# Altium footprint library p600_vertical.PcbLib: 1 footprints
Each footprint in its own frame and in the unit in brackets; x right, y up, seen from the top. Pads: shape width x height; smd on the part's side, far side on the other; paste and mask are expansions set on the pad; w line width, h text height; cw(c..) or ccw(c..) is an arc to the next point about the centre after c.
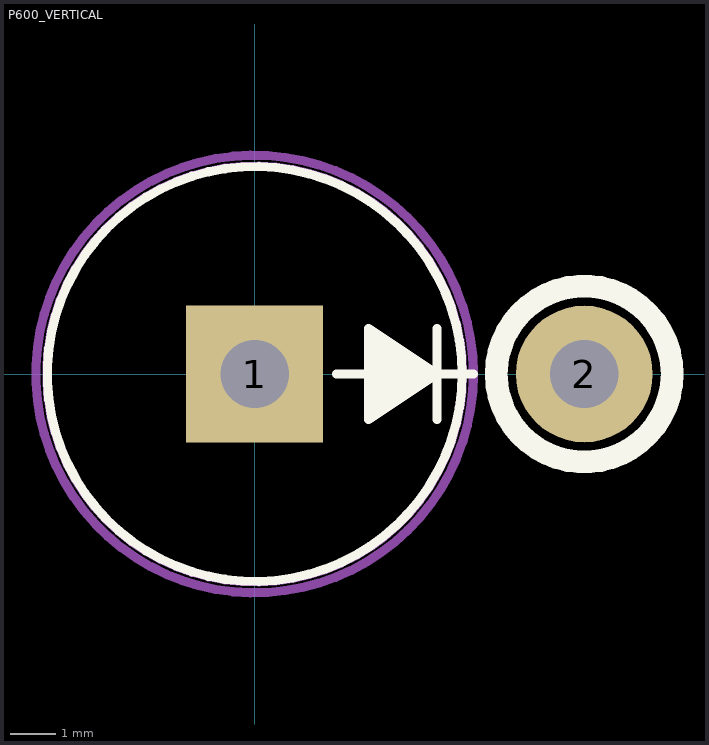
[diagram p0: the footprint, top view; thin cyan lines are the x and y axes]

## P600_VERTICAL [mm]
height 9.1
pads (2):
  rect 3x3 hole 1.5: 1(0,0)
  round 3 hole 1.5: 2(7.23,0)
Top Overlay:
  circle w0.5: c7.23,0 r1.93
  circle w0.2: c0,0 r4.55
  region: 2.5,1 4,0 2.5,-1
  lines w0.2: 1.8,0 4.8,0 ; 4,-1 4,1 ; 2.5,-1 4,0 2.5,1 2.5,-1
Top 3D Body:
  circle w0.2: c0,0 r4.561
Top Courtyard:
  circle w0.2: c0,0 r4.8
Top Designator (Mech17):
  text ".Designator" at -1.28,-0.18 h0.6
3D body "P600_VERTICAL.step": height 14.54, standoff -3.85, extent -4.547,-4.55 7.91,4.538